# EAGLE library part PLC-STAMP-MINI-2 (library pi-wall-socket)
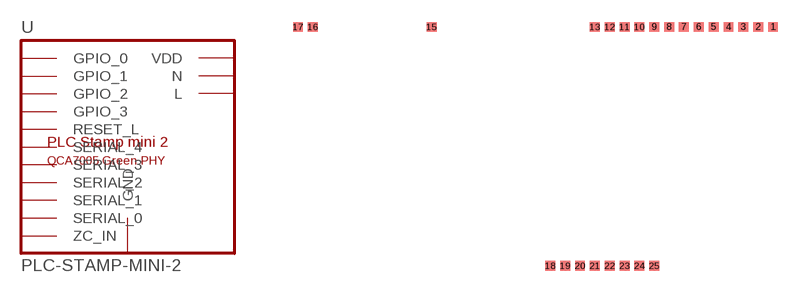
[diagram p1: symbol with the pads of PLCSTAMP; footprint PLCSTAMP]

Designator prefix U

## PLC-STAMP-MINI-2  [PLCSTAMP]
1  GPIO_0
2  GPIO_1
3  GPIO_2
4  GPIO_3
5  RESET_L
6  SERIAL_4
7  SERIAL_3
8  SERIAL_2
9  SERIAL_1
10  SERIAL_0
11  GND
12  VDD
13  ZC_IN
15  N
16  L
17  L
18  GND
19  GND
20  GND
21  GND
22  GND
23  GND
24  GND
25  GND

## Footprint PLCSTAMP (pad centres in mm)
chargebyte (ex I2SE) PLC Stamp mini 2 — QCA7005 HomePlug Green PHY module, 43.5 x 22 x 6.5 mm, integrated mains coupling
smd 0.85 x 0.85: 1 20.48,10.235; 2 19.21,10.235; 3 17.94,10.235; 4 16.67,10.235; 5 15.4,10.235; 6 14.13,10.235; 7 12.86,10.235; 8 11.59,10.235; 9 10.32,10.235; 10 9.05,10.235; 11 7.78,10.235; 12 6.51,10.235; 13 5.24,10.235; 15 -8.73,10.235; 16 -18.89,10.235; 17 -20.16,10.235; 18 1.43,-10.235; 19 2.7,-10.235; 20 3.97,-10.235; 21 5.24,-10.235; 22 6.51,-10.235; 23 7.78,-10.235; 24 9.05,-10.235; 25 10.32,-10.235